# EAGLE library part LCD (library MAAV)
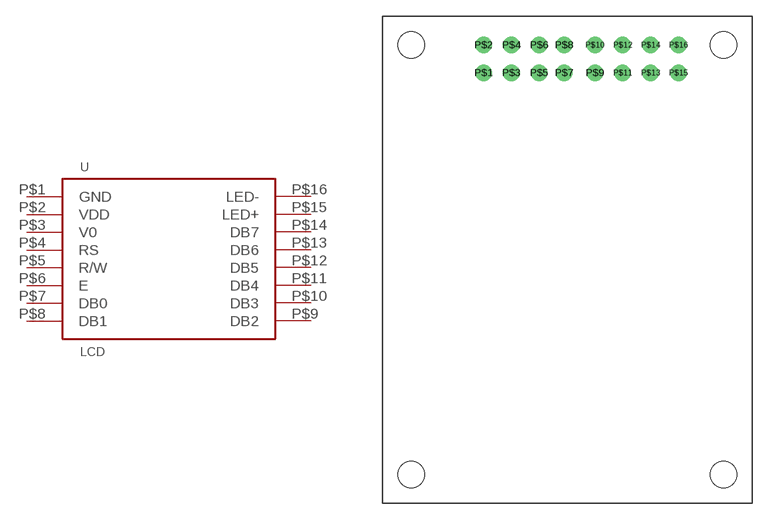
[diagram p0: symbol with the pads of LCD; footprint LCD]

Designator prefix U

## LCD (DIGIKEY: 153-1130-ND)  [LCD]
P$1  GND
P$2  VDD
P$3  V0
P$4  RS
P$5  R/W
P$6  E
P$7  DB0
P$8  DB1
P$9  DB2
P$10  DB3
P$11  DB4
P$12  DB5
P$13  DB6
P$14  DB7
P$15  LED+
P$16  LED-

## Footprint LCD (pad centres in mm)
drill 1: P$1 -7.65,17.06; P$2 -7.65,19.6; P$3 -5.11,17.06; P$4 -5.11,19.6; P$5 -2.57,17.06; P$6 -2.57,19.6; P$7 -0.3,17.06; P$8 -0.3,19.6; P$9 2.51,17.06; P$10 2.51,19.6; P$11 5.05,17.06; P$12 5.05,19.6; P$13 7.59,17.06; P$14 7.59,19.6; P$15 10.13,17.06; P$16 10.13,19.6
hole 2.4 at -14.25,-19.6
hole 2.4 at 14.25,-19.6
hole 2.4 at -14.25,19.6
hole 2.4 at 14.25,19.6